# Altium footprint library pwr8.PcbLib: 1 footprints
Each footprint in its own frame and in the unit in brackets; x right, y up, seen from the top. Pads: shape width x height; smd on the part's side, far side on the other; paste and mask are expansions set on the pad; w line width, h text height; cw(c..) or ccw(c..) is an arc to the next point about the centre after c.
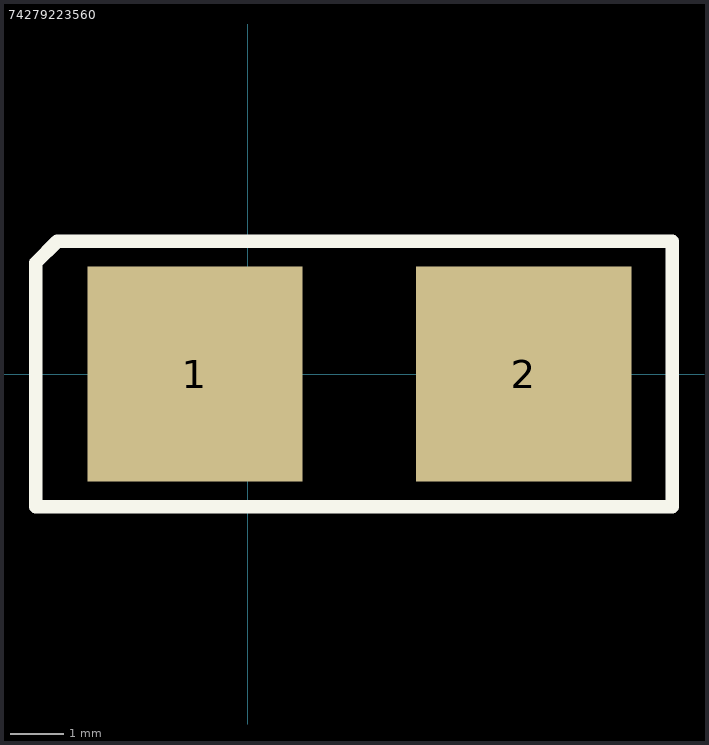
[diagram p0: the footprint, top view; thin cyan lines are the x and y axes]

## 74279223560 [mm] "WURTH ELEKTRONIK  74279223560  FERRITE BEAD, 4000UOHM, 10A, 1612"
height 2.28
pads (2):
  rect 4.06x4.06 all layers, no hole: 1(-1,0) 2(5.2,0)
Top Overlay:
  lines w0.254: -4,-2.5 -4,2 -4,2.1 -3.6,2.5 8,2.5 8,-2.5 -4,-2.5